# EAGLE library part MAX541 (library PowerBoard)
MAX5417/5418/5419 Maxim 50kΩ/100kΩ/200kΩ nonvolatile, linear-taper digital potentiometers Source: http://datasheets.maxim-ic.com/en/ds/MAX5417-MAX5419.pdf
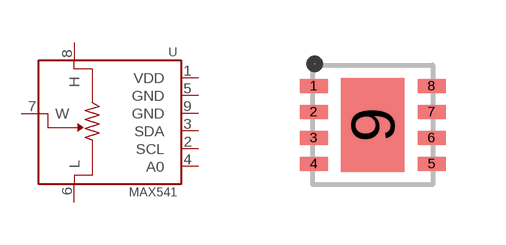
[diagram p3: symbol with the pads of TDFN-8; footprint TDFN-8]

Designator prefix U

## MAX5417L, MAX5417M, MAX5417N, MAX5417P, MAX5418L, MAX5418M, MAX5418N, MAX5418P, MAX5419L, MAX5419M, MAX5419N, MAX5419P  [TDFN-8]
1  VDD  pwr
2  SCL  in
3  SDA  oc
4  A0  in
5  GND  pwr
6  L  pas
7  W  pas
8  H  pas
9  GND  pwr

## Footprint TDFN-8 (pad centres in mm)
TDFN 8 Source: http://pdfserv.maxim-ic.com/land_patterns/90-0059.PDF <http://pdfserv.maxim-ic.com/land_patterns/90-0060.PDF> http://pdfserv.maxim-ic.com/package_dwgs/21-0137.PDF
smd 0.7 x 0.35: 1 -1.475,0.975; 2 -1.475,0.325; 3 -1.475,-0.325; 4 -1.475,-0.975; 5 1.475,-0.975; 6 1.475,-0.325; 7 1.475,0.325; 8 1.475,0.975
smd 1.58 x 2.35: 9 0,0